# EAGLE library part MM74C922WM (library Fairchild_By_element14_Batch_1)
16-Key Encoder ? 20-Key Encoder
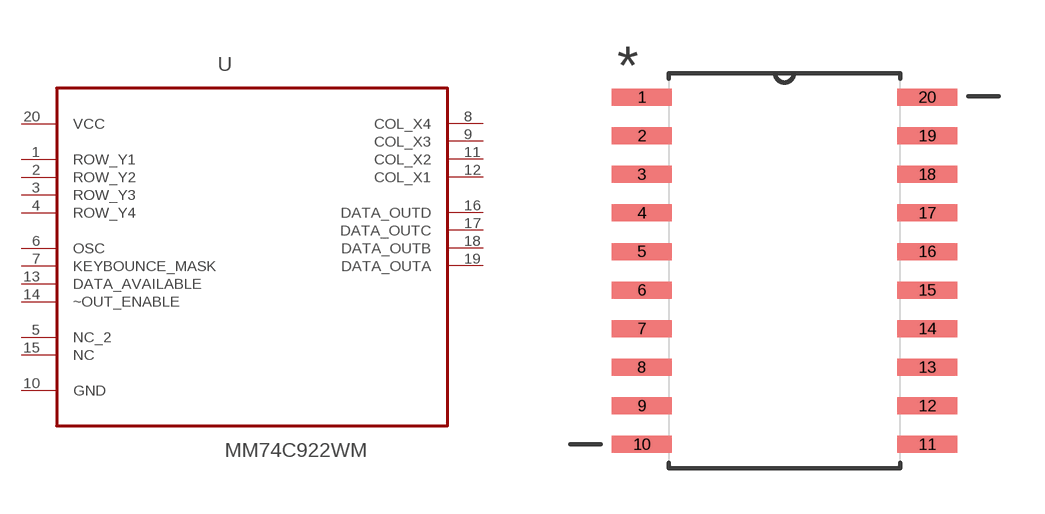
[diagram p227: symbol with the pads of SOIC127P1032X264-20N; footprint SOIC127P1032X264-20N]

Designator prefix U

## MM74C922WM (MPN: MM74C922WM; OC_FARNELL: -; OC_NEWARK: 78K6037; PACKAGE: SOIC-20; SUPPLIER: Fairchild)  [SOIC127P1032X264-20N]
1  ROW_Y1  in
2  ROW_Y2  in
3  ROW_Y3  in
4  ROW_Y4  in
5  NC_2  nc
6  OSC  in
7  KEYBOUNCE_MASK  pas
8  COL_X4  out
9  COL_X3  out
10  GND  pas
11  COL_X2  out
12  COL_X1  out
13  DATA_AVAILABLE  pas
14  ~OUT_ENABLE  in
15  NC  nc
16  DATA_OUTD  out
17  DATA_OUTC  out
18  DATA_OUTB  out
19  DATA_OUTA  out
20  VCC  pwr

## Footprint SOIC127P1032X264-20N (pad centres in mm)
smd 1.981 x 0.559: 1 -4.699,5.715; 2 -4.699,4.445; 3 -4.699,3.175; 4 -4.699,1.905; 5 -4.699,0.635; 6 -4.699,-0.635; 7 -4.699,-1.905; 8 -4.699,-3.175; 9 -4.699,-4.445; 10 -4.699,-5.715; 11 4.699,-5.715; 12 4.699,-4.445; 13 4.699,-3.175; 14 4.699,-1.905; 15 4.699,-0.635; 16 4.699,0.635; 17 4.699,1.905; 18 4.699,3.175; 19 4.699,4.445; 20 4.699,5.715